# Altium footprint library FootPrint_lib.PcbLib: 2 footprints
Each footprint in its own frame and in the unit in brackets; x right, y up, seen from the top. Pads: shape width x height; smd on the part's side, far side on the other; paste and mask are expansions set on the pad; w line width, h text height; cw(c..) or ccw(c..) is an arc to the next point about the centre after c.
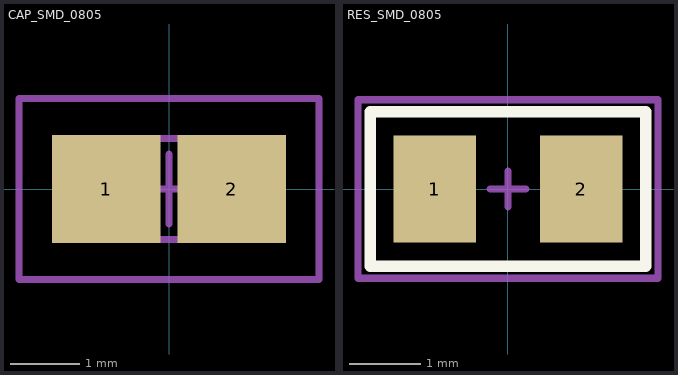
[diagram p0: the footprints below, top view; thin cyan lines are the x and y axes]

## CAP_SMD_0805 [mm] "Chip Capacitor, 2-Leads, Body 2.00x1.25mm, IPC Low Density"
height 1.45
pads (2):
  rect 1.55x1.55 smd: 1(-0.9,0) 2(0.9,0)
Top Assembly:
  lines w0.1: -1.1,-0.725 -1.1,0.725 1.1,0.725 1.1,-0.725 -1.1,-0.725
Top Courtyard:
  lines w0.1: -0.5,0 0.5,0 ; 0,-0.5 0,0.5 ; -2.15,-1.3 -2.15,1.3 2.15,1.3 2.15,-1.3 -2.15,-1.3
3D body "CAP_SMD_0805.step": height 1.45, standoff 0, extent -1.1,-0.725 1.1,0.725

## RES_SMD_0805 [mm] "Chip Resistor, 2-Leads, Body 2.00x1.25mm, IPC Low Density"
height 0.55
pads (2):
  rect 1.15x1.5 smd: 1(-1.025,0) 2(1.025,0)
Top Overlay:
  lines w0.16: -1.93,-1.08 -1.93,1.08 1.93,1.08 1.93,-1.08 -1.93,-1.08
Top Assembly:
  lines w0.1: -1.925,-1.075 1.925,-1.075 1.925,1.075 -1.925,1.075 -1.925,-1.075
Top Courtyard:
  lines w0.1: -2.1,-1.25 -2.1,1.25 2.1,1.25 2.1,-1.25 -2.1,-1.25
Top Component Center:
  lines w0.1: -0.25,0 0.25,0 ; 0,-0.25 0,0.25
3D body "RES_SMD_0805.step": height 0.55, standoff 0, extent -1.05,-0.7 1.05,0.7